# Altium integrated library Cypress PSoC 1.IntLib: 188 symbols (part 10 of 11)
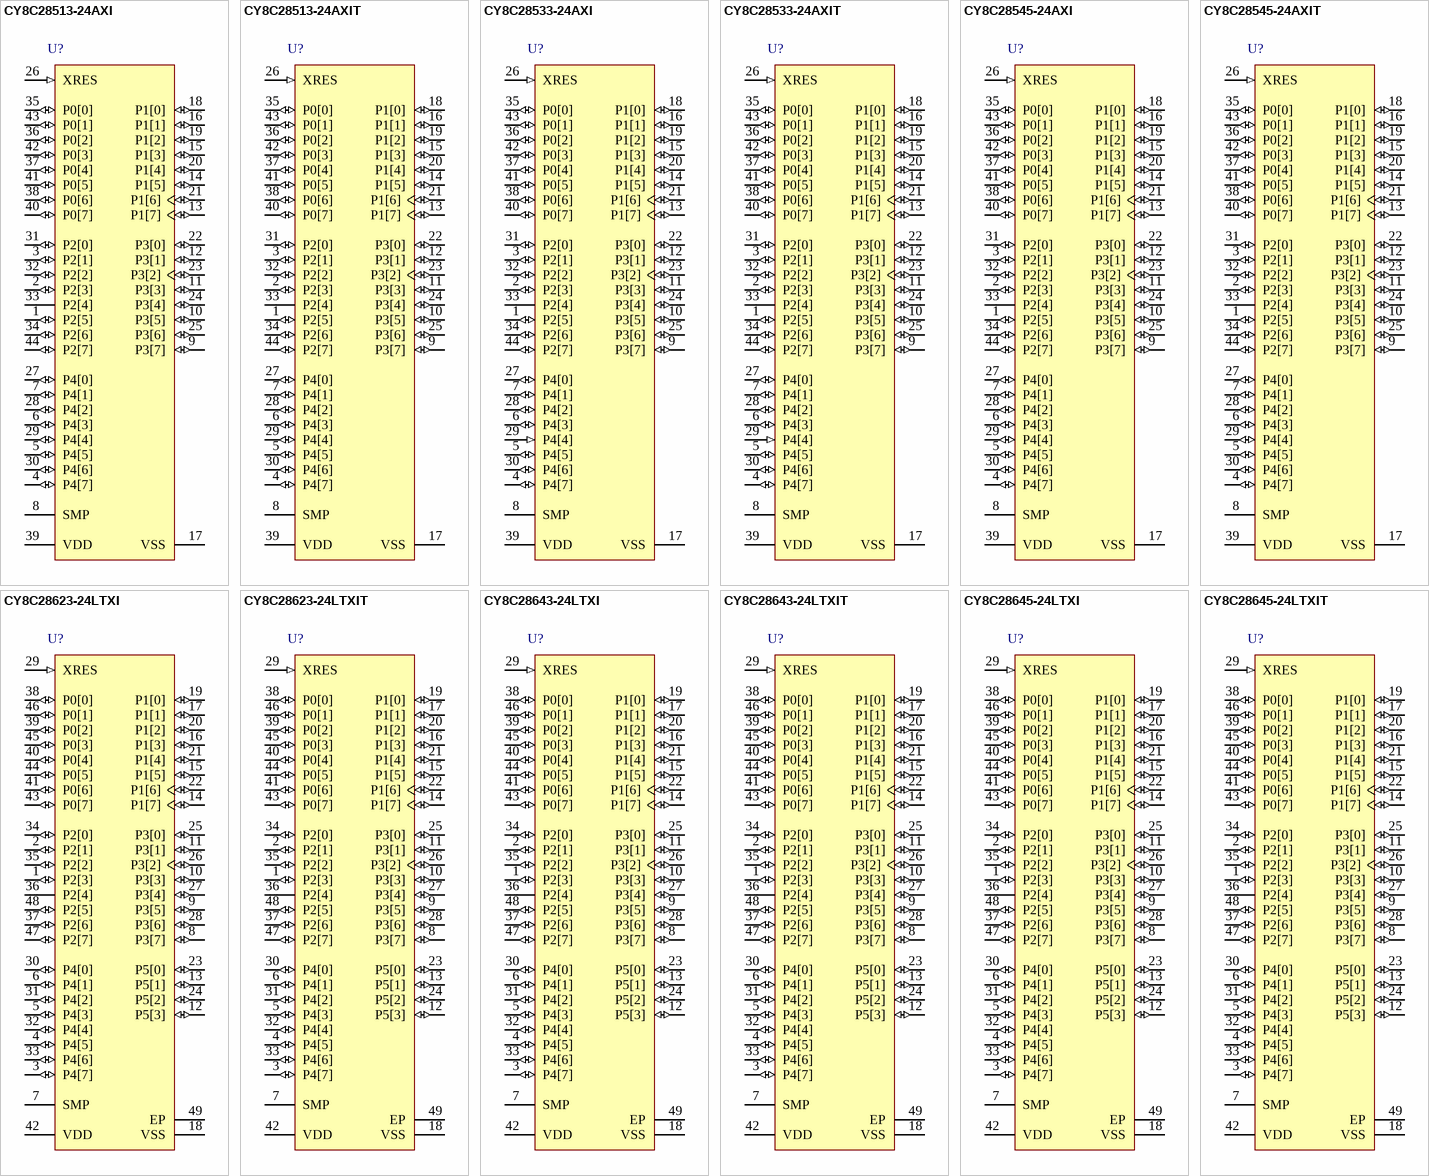
[diagram p20: symbols CY8C28513-24AXI to CY8C28645-24LTXIT]

## CY8C28643-24LTXIT
designator U?
PSoC Programmable System-on-Chip, 16 KB Flash, 44 GPIOs, 3.00 to 5.25 V, 48-Pin Sawn QFN (LT48D), Tape and Reel; Manufacturer: Cypress; PartNumber: CY8C28643-24LTXIT; No. of CapSense IO: 44; Flash (KB): 16; Max. Operating Voltage (V): 5.25; Min. Operating Voltage (V): 3.00; No. of Programmable Digital Blocks: 12; DatasheetVersion: Rev. *M; PackageReference: LT48D; PackageDescription: 48-Pin QFN, Body 7 x 7 mm, Pitch 0.5 mm; Supplier 1: Digi-Key; Supplier Part Number 1: CY8C28643-24LTXIT-ND; Supplier 2: Mouser; Supplier Part Number 2: 727-CY8C2864324LTXIT; Mounting Technology: Surface Mount; Code_JEDEC: MO-220; ComponentLink1Description: Manufacturer URL; ComponentLink1URL: http://www.cypress.com/; ComponentLink2Description: Datasheet; ComponentLink2URL: http://www.cypress.com/?docID=46091; ComponentLink3Description: Package Specification; ComponentLink3URL: http://www.cypress.com/?docID=39885; ComponentLink4Description: Product URL; ComponentLink4URL: http://www.cypress.com/?rID=35242
footprint CYP-LT48D_N (QFN, 48-Leads, Body 7x7mm, Pitch 0.5mm, Thermal Pad 5.6x5.6mm, IPC Medium Density)
footprint CYP-LT48D_L (QFN, 48-Leads, Body 7x7mm, Pitch 0.5mm, Thermal Pad 5.6x5.6mm, IPC High Density)
footprint CYP-LT48D_M (QFN, 48-Leads, Body 7x7mm, Pitch 0.5mm, Thermal Pad 5.6x5.6mm, IPC Low Density)
pins: 1 P2[3] (io) "Direct switched capacitor block input.", 2 P2[1] (io) "Direct switched capacitor block input.", 3 P4[7] (io), 4 P4[5] (io), 5 P4[3] (io), 6 P4[1] (io), 7 SMP (power) "Switch Mode Pump (SMP) connection to external components", 8 P3[7] (io), 9 P3[5] (io), 10 P3[3] (io), 11 P3[1] (io), 12 P5[3] (io), 13 P5[1] (io), 14 P1[7] (io) "I2C0 Serial Clock (SCL)", 15 P1[5] (io) "I2C0 Serial Data (SDA)", 16 P1[3] (io), 17 P1[1] (io) "Crystal Input (XTALin), I2C0 Serial Clock(SCL),ISSP-Sclk", 18 VSS (power) "Ground connection", 19 P1[0] (io) "Crystal Output (XTALout), I2C0 Serial Data(SDA),ISSP-SDATA", 20 P1[2] (io) "I2C1 Serial Data (SDA).", 21 P1[4] (io) "Optional External Clock Input(EXTCLK)", 22 P1[6] (io) "I2C1 Serial Clock (SCL)", 23 P5[0] (io), 24 P5[2] (io), 25 P3[0] (io) "I2C1 Serial Data (SDA)", 26 P3[2] (io) "I2C1 Serial Clock (SCL)", 27 P3[4] (io), 28 P3[6] (io), 29 XRES (in) "Active high external reset with internal pull-down", 30 P4[0] (io), 31 P4[2] (io), 32 P4[4] (io), 33 P4[6] (io), 34 P2[0] (io) "Direct switched capacitor block input", 35 P2[2] (io) "Direct switched capacitor block input", 36 P2[4] (power) "External Analog Ground (AGND)", 37 P2[6] (io) "External Voltage Reference (VRef)", 38 P0[0] (io) "Analog column mux and SAR ADC input", 39 P0[2] (io) "Analog column mux and SAR ADC input.Analog column output", 40 P0[4] (io) "Analog column mux and SAR ADC input.Analog column output", 41 P0[6] (io) "Analog column mux and SAR ADC input", 42 VDD (power) "Supply voltage", 43 P0[7] (io) "Analog column mux and SAR ADC input", 44 P0[5] (io) "Analog column mux and SAR ADC input.Analog column output", 45 P0[3] (io) "Analog column mux and SAR ADC input.Analog column output", 46 P0[1] (io) "Analog column mux and SAR ADC input", 47 P2[7] (io), 48 P2[5] (io), 49 EP (power)

## CY8C28645-24LTXI
designator U?
PSoC Programmable System-on-Chip, 16 KB Flash, 44 GPIOs, 3.00 to 5.25 V, 48-Pin Sawn QFN (LT48D); Manufacturer: Cypress; PartNumber: CY8C28645-24LTXI; No. of CapSense IO: 44; Flash (KB): 16; Max. Operating Voltage (V): 5.25; Min. Operating Voltage (V): 3.00; No. of Programmable Digital Blocks: 12; DatasheetVersion: Rev. *M; PackageReference: LT48D; PackageDescription: 48-Pin QFN, Body 7 x 7 mm, Pitch 0.5 mm; Supplier 1: Digi-Key; Supplier Part Number 1: CY8C28645-24LTXI-ND; Supplier 2: Mouser; Supplier Part Number 2: 727-CY8C2864524LTXI; Mounting Technology: Surface Mount; Code_JEDEC: MO-220; ComponentLink1Description: Manufacturer URL; ComponentLink1URL: http://www.cypress.com/; ComponentLink2Description: Datasheet; ComponentLink2URL: http://www.cypress.com/?docID=46091; ComponentLink3Description: Package Specification; ComponentLink3URL: http://www.cypress.com/?docID=39885; ComponentLink4Description: Product URL; ComponentLink4URL: http://www.cypress.com/?rID=35242
footprint CYP-LT48D_N (QFN, 48-Leads, Body 7x7mm, Pitch 0.5mm, Thermal Pad 5.6x5.6mm, IPC Medium Density)
footprint CYP-LT48D_L (QFN, 48-Leads, Body 7x7mm, Pitch 0.5mm, Thermal Pad 5.6x5.6mm, IPC High Density)
footprint CYP-LT48D_M (QFN, 48-Leads, Body 7x7mm, Pitch 0.5mm, Thermal Pad 5.6x5.6mm, IPC Low Density)
pins: 1 P2[3] (io) "Direct switched capacitor block input.", 2 P2[1] (io) "Direct switched capacitor block input.", 3 P4[7] (io), 4 P4[5] (io), 5 P4[3] (io), 6 P4[1] (io), 7 SMP (power) "Switch Mode Pump (SMP) connection to external components.", 8 P3[7] (io), 9 P3[5] (io), 10 P3[3] (io), 11 P3[1] (io), 12 P5[3] (io), 13 P5[1] (io), 14 P1[7] (io) "I2C0 Serial Clock (SCL).", 15 P1[5] (io) "I2C0 Serial Data (SDA).", 16 P1[3] (io), 17 P1[1] (io) "Crystal Input (XTALin), I2C0 Serial Clock (SCL), ISSP-SCLK", 18 VSS (power) "Ground connection.", 19 P1[0] (io) "Crystal Output (XTALout), I2C0 Serial Data (SDA), ISSP-SDATA", 20 P1[2] (io) "I2C1 Serial Data (SDA).", 21 P1[4] (io) "Optional External Clock Input (EXTCLK).", 22 P1[6] (io) "I2C1 Serial Clock (SCL).", 23 P5[0] (io), 24 P5[2] (io), 25 P3[0] (io) "I2C1 Serial Data (SDA).", 26 P3[2] (io) "I2C1 Serial Clock (SCL).", 27 P3[4] (io), 28 P3[6] (io), 29 XRES (in) "Active high external reset with internal pull-down.", 30 P4[0] (io), 31 P4[2] (io), 32 P4[4] (io), 33 P4[6] (io), 34 P2[0] (io) "Direct switched capacitor block input.", 35 P2[2] (io) "Direct switched capacitor block input.", 36 P2[4] (power) "External Analog Ground (AGND).", 37 P2[6] (io) "External Voltage Reference (VRef).", 38 P0[0] (io) "Analog column mux and SAR ADC input.", 39 P0[2] (io) "Analog column mux and SAR ADC input. Analog column output.", 40 P0[4] (io) "Analog column mux and SAR ADC input. Analog column output.", 41 P0[6] (io) "Analog column mux and SAR ADC input.", 42 VDD (power) "Supply voltage.", 43 P0[7] (io) "Analog column mux and SAR ADC input.", 44 P0[5] (io) "Analog column mux and SAR ADC input. Analog column output.", 45 P0[3] (io) "Analog column mux and SAR ADC input. Analog column output.", 46 P0[1] (io) "Analog column mux and SAR ADC input.", 47 P2[7] (io), 48 P2[5] (io), 49 EP (power)

## CY8C28645-24LTXIT
designator U?
PSoC Programmable System-on-Chip, 16 KB Flash, 44 GPIOs, 3.00 to 5.25 V, 48-Pin Sawn QFN (LT48D), Tape and Reel; Manufacturer: Cypress; PartNumber: CY8C28645-24LTXIT; No. of CapSense IO: 44; Flash (KB): 16; Max. Operating Voltage (V): 5.25; Min. Operating Voltage (V): 3.00; No. of Programmable Digital Blocks: 12; DatasheetVersion: Rev. *M; PackageReference: LT48D; PackageDescription: 48-Pin QFN, Body 7 x 7 mm, Pitch 0.5 mm; Supplier 1: Digi-Key; Supplier Part Number 1: CY8C28645-24LTXIT-ND; Supplier 2: Mouser; Supplier Part Number 2: 727-8C2864524LTXIT; Mounting Technology: Surface Mount; Code_JEDEC: MO-220; ComponentLink1Description: Manufacturer URL; ComponentLink1URL: http://www.cypress.com/; ComponentLink2Description: Datasheet; ComponentLink2URL: http://www.cypress.com/?docID=46091; ComponentLink3Description: Package Specification; ComponentLink3URL: http://www.cypress.com/?docID=39885; ComponentLink4Description: Product URL; ComponentLink4URL: http://www.cypress.com/?rID=35242
footprint CYP-LT48D_N (QFN, 48-Leads, Body 7x7mm, Pitch 0.5mm, Thermal Pad 5.6x5.6mm, IPC Medium Density)
footprint CYP-LT48D_L (QFN, 48-Leads, Body 7x7mm, Pitch 0.5mm, Thermal Pad 5.6x5.6mm, IPC High Density)
footprint CYP-LT48D_M (QFN, 48-Leads, Body 7x7mm, Pitch 0.5mm, Thermal Pad 5.6x5.6mm, IPC Low Density)
pins: 1 P2[3] (io) "Direct switched capacitor block input.", 2 P2[1] (io) "Direct switched capacitor block input.", 3 P4[7] (io), 4 P4[5] (io), 5 P4[3] (io), 6 P4[1] (io), 7 SMP (power) "Switch Mode Pump (SMP) connection to external components.", 8 P3[7] (io), 9 P3[5] (io), 10 P3[3] (io), 11 P3[1] (io), 12 P5[3] (io), 13 P5[1] (io), 14 P1[7] (io) "I2C0 Serial Clock (SCL).", 15 P1[5] (io) "I2C0 Serial Data (SDA).", 16 P1[3] (io), 17 P1[1] (io) "Crystal Input (XTALin), I2C0 Serial Clock (SCL), ISSP-SCLK", 18 VSS (power) "Ground connection.", 19 P1[0] (io) "Crystal Output (XTALout), I2C0 Serial Data (SDA), ISSP-SDATA", 20 P1[2] (io) "I2C1 Serial Data (SDA).", 21 P1[4] (io) "Optional External Clock Input (EXTCLK).", 22 P1[6] (io) "I2C1 Serial Clock (SCL).", 23 P5[0] (io), 24 P5[2] (io), 25 P3[0] (io) "I2C1 Serial Data (SDA).", 26 P3[2] (io) "I2C1 Serial Clock (SCL).", 27 P3[4] (io), 28 P3[6] (io), 29 XRES (in) "Active high external reset with internal pull-down.", 30 P4[0] (io), 31 P4[2] (io), 32 P4[4] (io), 33 P4[6] (io), 34 P2[0] (io) "Direct switched capacitor block input.", 35 P2[2] (io) "Direct switched capacitor block input.", 36 P2[4] (power) "External Analog Ground (AGND).", 37 P2[6] (io) "External Voltage Reference (VRef).", 38 P0[0] (io) "Analog column mux and SAR ADC input.", 39 P0[2] (io) "Analog column mux and SAR ADC input. Analog column output.", 40 P0[4] (io) "Analog column mux and SAR ADC input. Analog column output.", 41 P0[6] (io) "Analog column mux and SAR ADC input.", 42 VDD (power) "Supply voltage.", 43 P0[7] (io) "Analog column mux and SAR ADC input.", 44 P0[5] (io) "Analog column mux and SAR ADC input. Analog column output.", 45 P0[3] (io) "Analog column mux and SAR ADC input. Analog column output.", 46 P0[1] (io) "Analog column mux and SAR ADC input.", 47 P2[7] (io), 48 P2[5] (io), 49 EP (power)

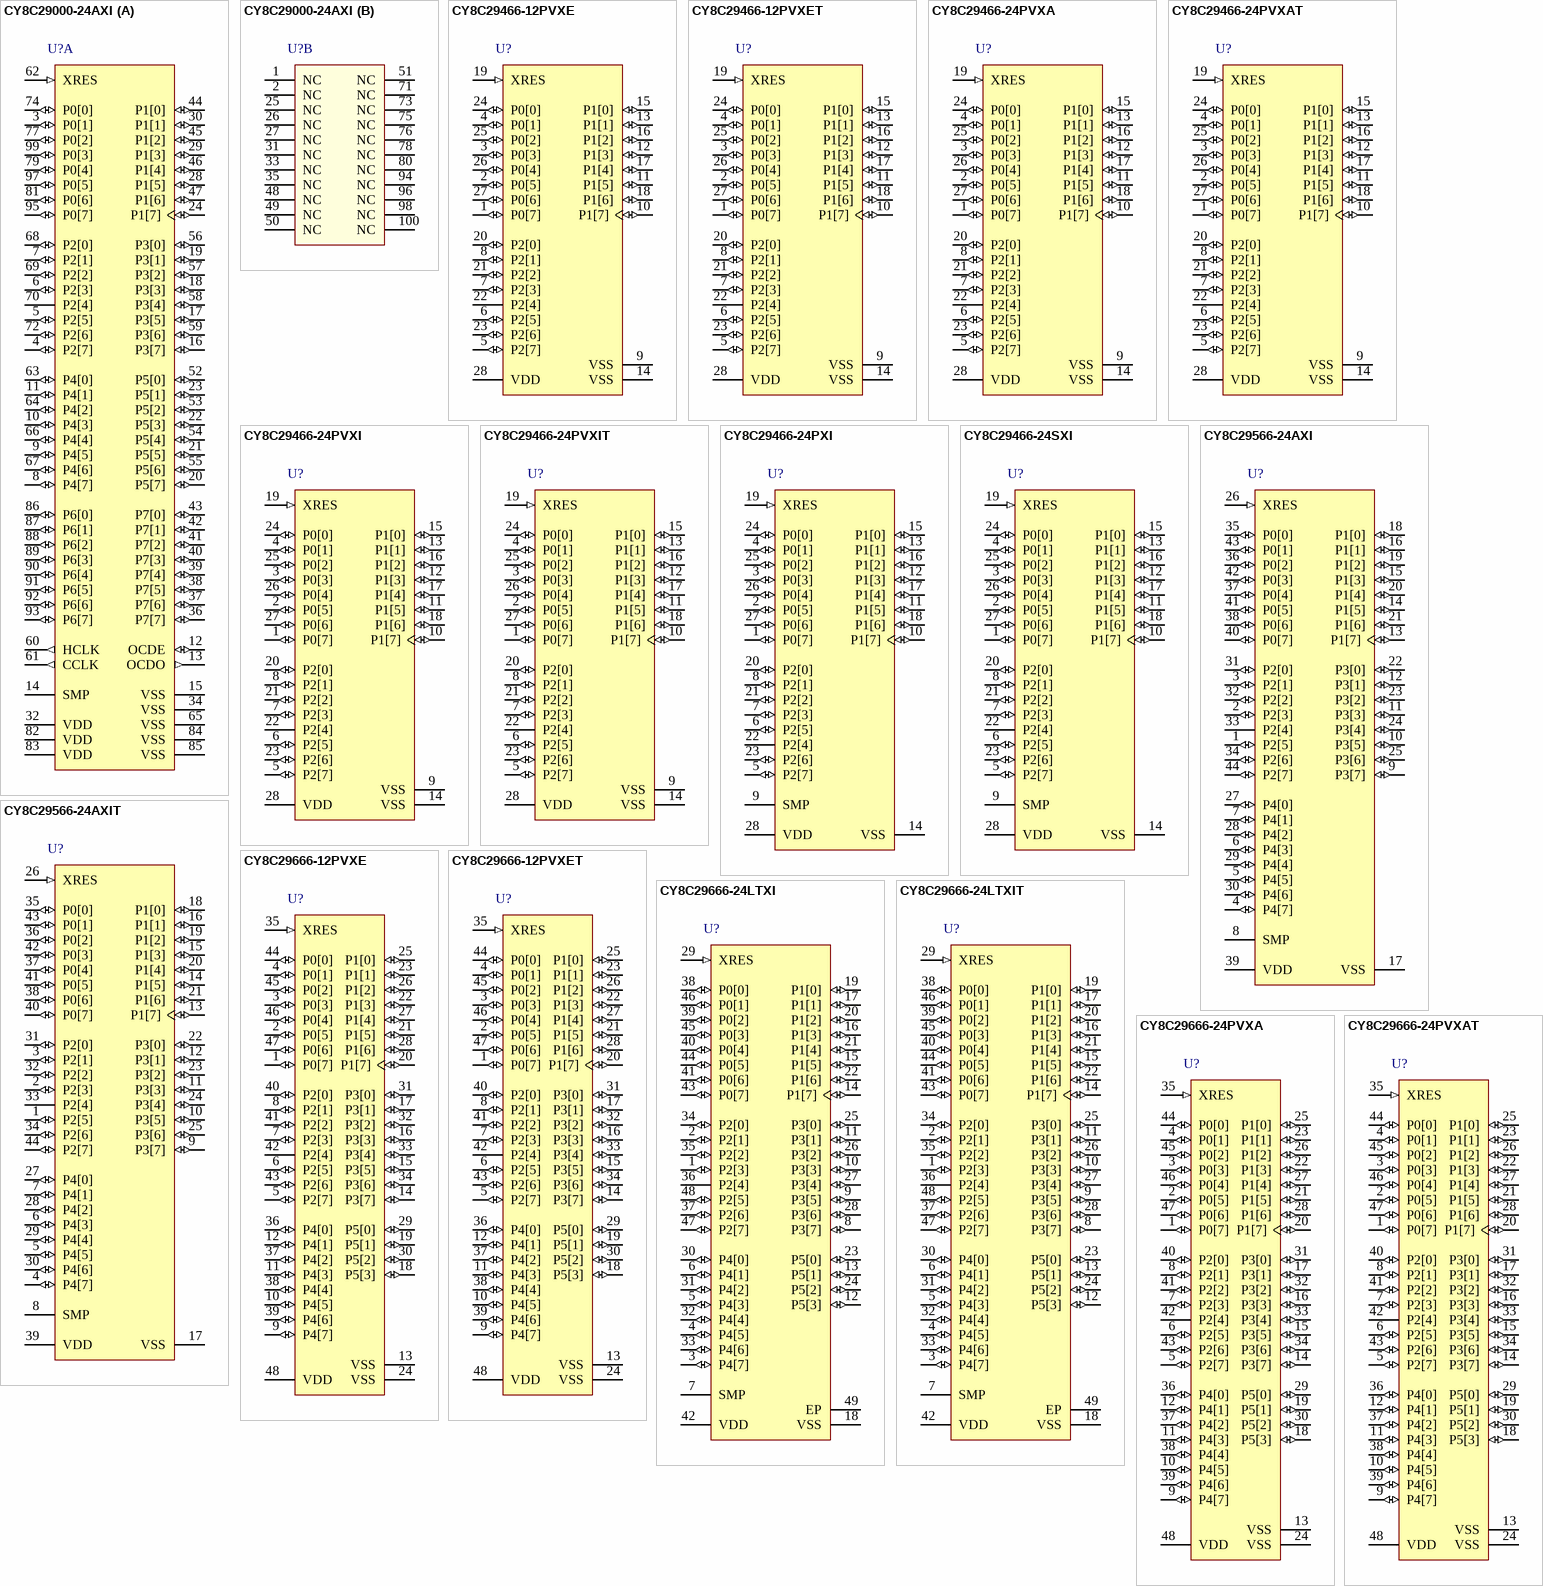
[diagram p10: symbols CY8C29000-24AXI to CY8C29666-24PVXAT]

## CY8C29000-24AXI
designator U?
PSoC Programmable System-on-Chip, 32 KB Flash, 64 GPIOs, 3.00 to 5.25 V, 100-Pin TQFP (A100SA); Manufacturer: Cypress; PartNumber: CY8C29000-24AXI; Flash (KB): 32; Max. Operating Voltage (V): 5.25; Min. Operating Voltage (V): 3.00; No. of Programmable Digital Blocks: 16; DatasheetVersion: Rev. *X; PackageVersion: *D; PackageReference: AX100; PackageDescription: 100-Pin Thin Plastic Quad Flatpack, Body 14 x14 mm, Pitch 0.5 mm; Supplier 1: Mouser; Supplier Part Number 1: N/A; Mounting Technology: Surface Mount; Code_JEDEC: MS-026; ComponentLink1Description: Manufacturer URL; ComponentLink1URL: http://www.cypress.com/; ComponentLink2Description: Datasheet; ComponentLink2URL: http://www.cypress.com/?docID=49191; ComponentLink3Description: Package Specification; ComponentLink3URL: http://www.cypress.com/?docID=35576; ComponentLink4Description: Product URL; ComponentLink4URL: http://www.cypress.com/?rID=3334
footprint CYP-AX100_N (QFN, 100-Leads, Body 14x14mm, Pitch 0.5mm, IPC Medium Density)
footprint CYP-AX100_L (QFN, 100-Leads, Body 14x14mm, Pitch 0.5mm, IPC High Density)
footprint CYP-AX100_M (QFN, 100-Leads, Body 14x14mm, Pitch 0.5mm, IPC Low Density)
part A pins: 3 P0[1] (io) "Analog column mux input", 4 P2[7] (io), 5 P2[5] (io), 6 P2[3] (io) "Direct switched capacitor block input", 7 P2[1] (io) "Direct switched capacitor block input", 8 P4[7] (io), 9 P4[5] (io), 10 P4[3] (io), 11 P4[1] (io), 12 OCDE (io) "OCD even data I/O", 13 OCDO (out) "OCD odd data output", 14 SMP (power) "Switch Mode Pump (SMP) connection to required external components", 15 VSS (power) "Ground connection", 16 P3[7] (io), 17 P3[5] (io), 18 P3[3] (io), 19 P3[1] (io), 20 P5[7] (io), 21 P5[5] (io), 22 P5[3] (io), 23 P5[1] (io), 24 P1[7] (io) "I2C SCL", 28 P1[5] (io) "I2C SDA", 29 P1[3] (io) "IFMTEST", 30 P1[1] (io) "Crystal (XTALin), I2C SCL, TC SCLK.", 32 VDD (power) "Supply voltage", 34 VSS (power) "Ground connection", 36 P7[7] (io), 37 P7[6] (io), 38 P7[5] (io), 39 P7[4] (io), 40 P7[3] (io), 41 P7[2] (io), 42 P7[1] (io), 43 P7[0] (io), 44 P1[0] (io) "Crystal (XTALout), I2C SDA, TC SDATA", 45 P1[2] (io) "VFMTEST", 46 P1[4] (io) "Optional External Clock Input (EXTCLK)", 47 P1[6] (io), 52 P5[0] (io), 53 P5[2] (io), 54 P5[4] (io), 55 P5[6] (io), 56 P3[0] (io), 57 P3[2] (io), 58 P3[4] (io), 59 P3[6] (io), 60 HCLK (out) "OCD high speed clock output", 61 CCLK (out) "OCD CPU clock output", 62 XRES (in) "Active high pin reset with internal pull-down", 63 P4[0] (io), 64 P4[2] (io), 65 VSS (power) "Ground connection", 66 P4[4] (io), 67 P4[6] (io), 68 P2[0] (io) "Direct switched capacitor block input", 69 P2[2] (io) "Direct switched capacitor block input", 70 P2[4] (power) "External Analog Ground (AGND) input", 72 P2[6] (io) "External Voltage Reference (VREF) input", 74 P0[0] (io) "Analog column mux input", 77 P0[2] (io) "Analog column mux input and column output", 79 P0[4] (io) "Analog column mux input and column output, VREF", 81 P0[6] (io) "Analog column mux input", 82 VDD (power) "Supply voltage", 83 VDD (power) "Supply voltage", 84 VSS (power) "Ground connection", 85 VSS (power) "Ground connection", 86 P6[0] (io), 87 P6[1] (io), 88 P6[2] (io), 89 P6[3] (io), 90 P6[4] (io), 91 P6[5] (io), 92 P6[6] (io), 93 P6[7] (io), 95 P0[7] (io) "Analog column mux input", 97 P0[5] (io) "Analog column mux input and column output", 99 P0[3] (io) "Analog column mux input and column output"
part B pins: 1 NC "No internal connection", 2 NC "No internal connection", 25 NC "No internal connection", 26 NC "No internal connection", 27 NC "No internal connection", 31 NC "No internal connection", 33 NC "No internal connection", 35 NC "No internal connection", 48 NC "No internal connection", 49 NC "No internal connection", 50 NC "No internal connection", 51 NC "No internal connection", 71 NC "No internal connection", 73 NC "No internal connection", 75 NC "No internal connection", 76 NC "No internal connection", 78 NC "No internal connection", 80 NC "No internal connection", 94 NC "No internal connection", 96 NC "No internal connection", 98 NC "No internal connection", 100 NC "No internal connection"

## CY8C29466-12PVXE
designator U?
Automotive Extended Temperature PSoC Programmable System-on-Chip, 32 KB Flash, 24 GPIOs, 4.75 to 5.25 V, 28-Pin SSOP (O28.21); Manufacturer: Cypress; PartNumber: CY8C29466-12PVXE; Flash (KB): 32; Max. Operating Voltage (V): 5.25; Min. Operating Voltage (V): 4.75; No. of Programmable Digital Blocks: 16; DatasheetVersion: Rev. *M; PackageVersion: *C; PackageReference: PVX28; PackageDescription: 28-Pin SSOP, Body 10.2 x 5.3 mm, Pitch 0.65 mm; Supplier 1: Digi-Key; Supplier Part Number 1: CY8C29466-12PVXE-ND; Supplier 2: Newark; Supplier Part Number 2: 53M3705; Supplier 3: Mouser; Supplier Part Number 3: 727-CY8C29466-12PVXE; Mounting Technology: Surface Mount; ComponentLink1Description: Manufacturer URL; ComponentLink1URL: http://www.cypress.com/; ComponentLink2Description: Datasheet; ComponentLink2URL: http://www.cypress.com/?docID=39752; ComponentLink3Description: Package Specification; ComponentLink3URL: http://www.cypress.com/?docID=1371; ComponentLink4Description: Product URL; ComponentLink4URL: http://www.cypress.com/?rID=3313
footprint CYP-PVX28_N (SOP, 28-Leads, Body 10.2x5.3mm, Pitch 0.65mm, IPC Medium Density)
footprint CYP-PVX28_L (SOP, 28-Leads, Body 10.2x5.3mm, Pitch 0.65mm, IPC High Density)
footprint CYP-PVX28_M (SOP, 28-Leads, Body 10.2x5.3mm, Pitch 0.65mm, IPC Low Density)
pins: 1 P0[7] (io) "Analog column mux input", 2 P0[5] (io) "Analog column mux input and column output", 3 P0[3] (io) "Analog column mux input and column output", 4 P0[1] (io) "Analog column mux input", 5 P2[7] (io), 6 P2[5] (io), 7 P2[3] (io) "Direct switched capacitor block input", 8 P2[1] (io) "Direct switched capacitor block input", 9 VSS (power) "Ground connection", 10 P1[7] (io) "I2C serial clock (SCL)", 11 P1[5] (io) "I2C serial data (SDA)", 12 P1[3] (io), 13 P1[1] (io) "Crystal input (XTALin), I2C serial clock (SCL),ISSP-SDATA", 14 VSS (power) "Ground connection", 15 P1[0] (io) "Crystal output (XTALout), I2C serial data(SDA),ISSP-SDATA", 16 P1[2] (io), 17 P1[4] (io) "Optional external clock (EXTCLK) input.", 18 P1[6] (io), 19 XRES (in) "Active high external reset with internal pull-down", 20 P2[0] (io) "Direct switched capacitor block input", 21 P2[2] (io) "Direct switched capacitor block input", 22 P2[4] (power) "External analog ground (AGND)", 23 P2[6] (io) "External voltage reference (VREF)", 24 P0[0] (io) "Analog column mux input", 25 P0[2] (io) "Analog column mux input and column output", 26 P0[4] (io) "Analog column mux input and column output", 27 P0[6] (io) "Analog column mux input", 28 VDD (power) "Supply voltage"

## CY8C29466-12PVXET
designator U?
Automotive Extended Temperature PSoC Programmable System-on-Chip, 32 KB Flash, 24 GPIOs, 4.75 to 5.25 V, 28-Pin SSOP (O28.21), Tape and Reel; Manufacturer: Cypress; PartNumber: CY8C29466-12PVXET; Flash (KB): 32; Max. Operating Voltage (V): 5.25; Min. Operating Voltage (V): 4.75; No. of Programmable Digital Blocks: 16; DatasheetVersion: Rev. *M; PackageVersion: *C; PackageReference: PVX28; PackageDescription: 28-Pin SSOP, Body 10.2 x 5.3 mm, Pitch 0.65 mm; Supplier 1: Digi-Key; Supplier Part Number 1: CY8C29466-12PVXET-ND; Supplier 2: Mouser; Supplier Part Number 2: 727-CY8C2946612PVXET; Mounting Technology: Surface Mount; ComponentLink1Description: Manufacturer URL; ComponentLink1URL: http://www.cypress.com/; ComponentLink2Description: Datasheet; ComponentLink2URL: http://www.cypress.com/?docID=39752; ComponentLink3Description: Package Specification; ComponentLink3URL: http://www.cypress.com/?docID=1371; ComponentLink4Description: Product URL; ComponentLink4URL: http://www.cypress.com/?rID=3313
footprint CYP-PVX28_N (SOP, 28-Leads, Body 10.2x5.3mm, Pitch 0.65mm, IPC Medium Density)
footprint CYP-PVX28_L (SOP, 28-Leads, Body 10.2x5.3mm, Pitch 0.65mm, IPC High Density)
footprint CYP-PVX28_M (SOP, 28-Leads, Body 10.2x5.3mm, Pitch 0.65mm, IPC Low Density)
pins: 1 P0[7] (io) "Analog column mux input", 2 P0[5] (io) "Analog column mux input and column output", 3 P0[3] (io) "Analog column mux input and column output", 4 P0[1] (io) "Analog column mux input", 5 P2[7] (io), 6 P2[5] (io), 7 P2[3] (io) "Direct switched capacitor block input", 8 P2[1] (io) "Direct switched capacitor block input", 9 VSS (power) "Ground connection", 10 P1[7] (io) "I2C serial clock (SCL)", 11 P1[5] (io) "I2C serial data (SDA)", 12 P1[3] (io), 13 P1[1] (io) "Crystal input (XTALin), I2C serial clock (SCL),ISSP-SDATA", 14 VSS (power) "Ground connection", 15 P1[0] (io) "Crystal output (XTALout), I2C serial data(SDA),ISSP-SDATA", 16 P1[2] (io), 17 P1[4] (io) "Optional external clock (EXTCLK) input.", 18 P1[6] (io), 19 XRES (in) "Active high external reset with internal pull-down", 20 P2[0] (io) "Direct switched capacitor block input", 21 P2[2] (io) "Direct switched capacitor block input", 22 P2[4] (power) "External analog ground (AGND)", 23 P2[6] (io) "External voltage reference (VREF)", 24 P0[0] (io) "Analog column mux input", 25 P0[2] (io) "Analog column mux input and column output", 26 P0[4] (io) "Analog column mux input and column output", 27 P0[6] (io) "Analog column mux input", 28 VDD (power) "Supply voltage"

## CY8C29466-24PVXA
designator U?
Automotive PSoC Programmable System-on-Chip, 32 KB Flash, 24 GPIOs, 3.00 to 5.25 V, 28-Pin SSOP (O28.21); Manufacturer: Cypress; PartNumber: CY8C29466-24PVXA; Flash (KB): 32; Max. Operating Voltage (V): 5.25; Min. Operating Voltage (V): 3.00; No. of Programmable Digital Blocks: 16; DatasheetVersion: Rev. *G; PackageVersion: *C; PackageReference: PVX28; PackageDescription: 28-Pin SSOP, Body 10.2 x 5.3 mm, Pitch 0.65 mm; Supplier 1: Digi-Key; Supplier Part Number 1: CY8C29466-24PVXA-ND; Supplier 2: Mouser; Supplier Part Number 2: 727-CY8C29466-24PVXA; Mounting Technology: Surface Mount; ComponentLink1Description: Manufacturer URL; ComponentLink1URL: http://www.cypress.com/; ComponentLink2Description: Datasheet; ComponentLink2URL: http://www.cypress.com/?docID=34522; ComponentLink3Description: Package Specification; ComponentLink3URL: http://www.cypress.com/?docID=1371; ComponentLink4Description: Product URL; ComponentLink4URL: http://www.cypress.com/?rID=37551
footprint CYP-PVX28_N (SOP, 28-Leads, Body 10.2x5.3mm, Pitch 0.65mm, IPC Medium Density)
footprint CYP-PVX28_L (SOP, 28-Leads, Body 10.2x5.3mm, Pitch 0.65mm, IPC High Density)
footprint CYP-PVX28_M (SOP, 28-Leads, Body 10.2x5.3mm, Pitch 0.65mm, IPC Low Density)
pins: 1 P0[7] (io) "Analog column mux input", 2 P0[5] (io) "Analog column mux input and column output", 3 P0[3] (io) "Analog column mux input and column output", 4 P0[1] (io) "Analog column mux input", 5 P2[7] (io), 6 P2[5] (io), 7 P2[3] (io) "Direct switched capacitor block input", 8 P2[1] (io) "Direct switched capacitor block input", 9 VSS (power) "Ground connection", 10 P1[7] (io) "I2C serial clock (SCL)", 11 P1[5] (io) "I2C serial data (SDA)", 12 P1[3] (io), 13 P1[1] (io) "Crystal input (XTALin), I2C serial clock (SCL),ISSP-SDATA", 14 VSS (power) "Ground connection", 15 P1[0] (io) "Crystal output (XTALout), I2C serial data(SDA),ISSP-SDATA", 16 P1[2] (io), 17 P1[4] (io) "Optional external clock (EXTCLK) input.", 18 P1[6] (io), 19 XRES (in) "Active high external reset with internal pull-down", 20 P2[0] (io) "Direct switched capacitor block input", 21 P2[2] (io) "Direct switched capacitor block input", 22 P2[4] (power) "External analog ground (AGND)", 23 P2[6] (io) "External voltage reference (VREF)", 24 P0[0] (io) "Analog column mux input", 25 P0[2] (io) "Analog column mux input and column output", 26 P0[4] (io) "Analog column mux input and column output", 27 P0[6] (io) "Analog column mux input", 28 VDD (power) "Supply voltage"

## CY8C29466-24PVXAT
designator U?
Automotive PSoC Programmable System-on-Chip, 32 KB Flash, 24 GPIOs, 3.00 to 5.25 V, 28-Pin SSOP (O28.21), Tape and Reel; Manufacturer: Cypress; PartNumber: CY8C29466-24PVXAT; Flash (KB): 32; Max. Operating Voltage (V): 5.25; Min. Operating Voltage (V): 3.00; No. of Programmable Digital Blocks: 16; DatasheetVersion: Rev. *G; PackageVersion: *C; PackageReference: PVX28; PackageDescription: 28-Pin SSOP, Body 10.2 x 5.3 mm, Pitch 0.65 mm; Supplier 1: Digi-Key; Supplier Part Number 1: CY8C29466-24PVXAT-ND; Supplier 2: Mouser; Supplier Part Number 2: 727-CY8C2946624PVXAT; Mounting Technology: Surface Mount; ComponentLink1Description: Manufacturer URL; ComponentLink1URL: http://www.cypress.com/; ComponentLink2Description: Datasheet; ComponentLink2URL: http://www.cypress.com/?docID=34522; ComponentLink3Description: Package Specification; ComponentLink3URL: http://www.cypress.com/?docID=1371; ComponentLink4Description: Product URL; ComponentLink4URL: http://www.cypress.com/?rID=37551
footprint CYP-PVX28_N (SOP, 28-Leads, Body 10.2x5.3mm, Pitch 0.65mm, IPC Medium Density)
footprint CYP-PVX28_L (SOP, 28-Leads, Body 10.2x5.3mm, Pitch 0.65mm, IPC High Density)
footprint CYP-PVX28_M (SOP, 28-Leads, Body 10.2x5.3mm, Pitch 0.65mm, IPC Low Density)
pins: 1 P0[7] (io) "Analog column mux input", 2 P0[5] (io) "Analog column mux input and column output", 3 P0[3] (io) "Analog column mux input and column output", 4 P0[1] (io) "Analog column mux input", 5 P2[7] (io), 6 P2[5] (io), 7 P2[3] (io) "Direct switched capacitor block input", 8 P2[1] (io) "Direct switched capacitor block input", 9 VSS (power) "Ground connection", 10 P1[7] (io) "I2C serial clock (SCL)", 11 P1[5] (io) "I2C serial data (SDA)", 12 P1[3] (io), 13 P1[1] (io) "Crystal input (XTALin), I2C serial clock (SCL),ISSP-SDATA", 14 VSS (power) "Ground connection", 15 P1[0] (io) "Crystal output (XTALout), I2C serial data(SDA),ISSP-SDATA", 16 P1[2] (io), 17 P1[4] (io) "Optional external clock (EXTCLK) input.", 18 P1[6] (io), 19 XRES (in) "Active high external reset with internal pull-down", 20 P2[0] (io) "Direct switched capacitor block input", 21 P2[2] (io) "Direct switched capacitor block input", 22 P2[4] (power) "External analog ground (AGND)", 23 P2[6] (io) "External voltage reference (VREF)", 24 P0[0] (io) "Analog column mux input", 25 P0[2] (io) "Analog column mux input and column output", 26 P0[4] (io) "Analog column mux input and column output", 27 P0[6] (io) "Analog column mux input", 28 VDD (power) "Supply voltage"

## CY8C29466-24PVXI
designator U?
PSoC Programmable System-on-Chip, 32 KB Flash, 24 GPIOs, 3.00 to 5.25 V, O28.21, 28-Pin (210-Mil) SSOP; Manufacturer: Cypress; PartNumber: CY8C29466-24PVXI; Flash (KB): 32; Max. Operating Voltage (V): 5.25; Min. Operating Voltage (V): 3.00; No. of Programmable Digital Blocks: 16; DatasheetVersion: Rev. *X; PackageVersion: *C; PackageReference: PVX28; PackageDescription: 28-Pin SSOP, Body 10.2 x 5.3 mm, Pitch 0.65 mm; Supplier 1: Digi-Key; Supplier Part Number 1: 428-1587-ND; Supplier 2: Farnell; Supplier Part Number 2: 1321745; Supplier 3: Newark; Supplier Part Number 3: 19M7229; Supplier 4: Mouser; Supplier Part Number 4: 727-CY8C29466-24PVXI; Mounting Technology: Surface Mount; ComponentLink1Description: Manufacturer URL; ComponentLink1URL: http://www.cypress.com/; ComponentLink2Description: Datasheet; ComponentLink2URL: http://www.cypress.com/?docID=49191; ComponentLink3Description: Package Specification; ComponentLink3URL: http://www.cypress.com/?docID=1371; ComponentLink4Description: Product URL; ComponentLink4URL: http://www.cypress.com/?rID=3334
footprint CYP-PVX28_N (SOP, 28-Leads, Body 10.2x5.3mm, Pitch 0.65mm, IPC Medium Density)
footprint CYP-PVX28_L (SOP, 28-Leads, Body 10.2x5.3mm, Pitch 0.65mm, IPC High Density)
footprint CYP-PVX28_M (SOP, 28-Leads, Body 10.2x5.3mm, Pitch 0.65mm, IPC Low Density)
pins: 1 P0[7] (io) "Analog column mux input", 2 P0[5] (io) "Analog column mux input and column output", 3 P0[3] (io) "Analog column mux input and column output", 4 P0[1] (io) "Analog column mux input", 5 P2[7] (io), 6 P2[5] (io), 7 P2[3] (io) "Direct switched capacitor block input", 8 P2[1] (io) "Direct switched capacitor block input", 9 VSS (power) "Ground connection", 10 P1[7] (io) "I2C serial clock (SCL)", 11 P1[5] (io) "I2C serial data (SDA)", 12 P1[3] (io), 13 P1[1] (io) "Crystal input (XTALin), I2C serial clock (SCL),ISSP-SDATA", 14 VSS (power) "Ground connection", 15 P1[0] (io) "Crystal output (XTALout), I2C serial data(SDA),ISSP-SDATA", 16 P1[2] (io), 17 P1[4] (io) "Optional external clock (EXTCLK) input.", 18 P1[6] (io), 19 XRES (in) "Active high external reset with internal pull-down", 20 P2[0] (io) "Direct switched capacitor block input", 21 P2[2] (io) "Direct switched capacitor block input", 22 P2[4] (power) "External analog ground (AGND)", 23 P2[6] (io) "External voltage reference (VREF)", 24 P0[0] (io) "Analog column mux input", 25 P0[2] (io) "Analog column mux input and column output", 26 P0[4] (io) "Analog column mux input and column output", 27 P0[6] (io) "Analog column mux input", 28 VDD (power) "Supply voltage"

## CY8C29466-24PVXIT
designator U?
PSoC Programmable System-on-Chip, 32 KB Flash, 24 GPIOs, 3.00 to 5.25 V, O28.21, 28-Pin (210-Mil) SSOP, Tape and Reel; Manufacturer: Cypress; PartNumber: CY8C29466-24PVXIT; Comm. Interface: I2C-SPI-UART; Flash (KB): 32; Max. Operating Voltage (V): 5.25; Min. Operating Voltage (V): 3.00; No. of Programmable Digital Blocks: 16; DatasheetVersion: Rev. *X; PackageVersion: *C; PackageReference: PVX28; PackageDescription: 28-Pin SSOP, Body 10.2 x 5.3 mm, Pitch 0.65 mm; Supplier 1: Digi-Key; Supplier Part Number 1: CY8C29466-24PVXIT-ND; Supplier 2: Newark; Supplier Part Number 2: 19M7230; Supplier 3: Mouser; Supplier Part Number 3: 727-CY8C2946624PVXIT; Mounting Technology: Surface Mount; ComponentLink1Description: Manufacturer URL; ComponentLink1URL: http://www.cypress.com/; ComponentLink2Description: Datasheet; ComponentLink2URL: http://www.cypress.com/?docID=49191; ComponentLink3Description: Package Specification; ComponentLink3URL: http://www.cypress.com/?docID=1371; ComponentLink4Description: Product URL; ComponentLink4URL: http://www.cypress.com/?rID=3334
footprint CYP-PVX28_N (SOP, 28-Leads, Body 10.2x5.3mm, Pitch 0.65mm, IPC Medium Density)
footprint CYP-PVX28_L (SOP, 28-Leads, Body 10.2x5.3mm, Pitch 0.65mm, IPC High Density)
footprint CYP-PVX28_M (SOP, 28-Leads, Body 10.2x5.3mm, Pitch 0.65mm, IPC Low Density)
pins: 1 P0[7] (io) "Analog column mux input", 2 P0[5] (io) "Analog column mux input and column output", 3 P0[3] (io) "Analog column mux input and column output", 4 P0[1] (io) "Analog column mux input", 5 P2[7] (io), 6 P2[5] (io), 7 P2[3] (io) "Direct switched capacitor block input", 8 P2[1] (io) "Direct switched capacitor block input", 9 VSS (power) "Ground connection", 10 P1[7] (io) "I2C serial clock (SCL)", 11 P1[5] (io) "I2C serial data (SDA)", 12 P1[3] (io), 13 P1[1] (io) "Crystal input (XTALin), I2C serial clock (SCL),ISSP-SDATA", 14 VSS (power) "Ground connection", 15 P1[0] (io) "Crystal output (XTALout), I2C serial data(SDA),ISSP-SDATA", 16 P1[2] (io), 17 P1[4] (io) "Optional external clock (EXTCLK) input.", 18 P1[6] (io), 19 XRES (in) "Active high external reset with internal pull-down", 20 P2[0] (io) "Direct switched capacitor block input", 21 P2[2] (io) "Direct switched capacitor block input", 22 P2[4] (power) "External analog ground (AGND)", 23 P2[6] (io) "External voltage reference (VREF)", 24 P0[0] (io) "Analog column mux input", 25 P0[2] (io) "Analog column mux input and column output", 26 P0[4] (io) "Analog column mux input and column output", 27 P0[6] (io) "Analog column mux input", 28 VDD (power) "Supply voltage"

## CY8C29466-24PXI
designator U?
PSoC Programmable System-on-Chip, 32 KB Flash, 24 GPIOs, 3.00 to 5.25 V, P28.3, 28-Pin (300-mil) DIP; Manufacturer: Cypress; PartNumber: CY8C29466-24PXI; Flash (KB): 32; Max. Operating Voltage (V): 5.25; Min. Operating Voltage (V): 3.00; No. of Programmable Digital Blocks: 16; DatasheetVersion: Rev. *X; PackageVersion: Rev. *R; PackageReference: P28.3; PackageDescription: 28-Pin Molded DIP, Row Spacing 7.62 mm, Pitch 2.54 mm; Supplier 1: Digi-Key; Supplier Part Number 1: 428-1586-ND; Supplier 2: Farnell; Supplier Part Number 2: 1267194; Supplier 3: Newark; Supplier Part Number 3: 19M7231; Supplier 4: Mouser; Supplier Part Number 4: 727-CY8C29466-24PXI; Mounting Technology: Surface Mount; Code_JEDEC: MO-095; ComponentLink1Description: Manufacturer URL; ComponentLink1URL: http://www.cypress.com/; ComponentLink2Description: Datasheet; ComponentLink2URL: http://www.cypress.com/?docID=49191; ComponentLink3Description: Package Specification; ComponentLink3URL: http://www.cypress.com/?docID=36703; ComponentLink4Description: Product URL; ComponentLink4URL: http://www.cypress.com/?rID=3334
footprint CYP-P28.3 (DIP, 28-Leads, Body 34.67x7.05mm, Pitch 2.54mm)
pins: 1 P0[7] (io) "Analog column mux input", 2 P0[5] (io) "Analog column mux input and column output", 3 P0[3] (io) "Analog column mux input and column output", 4 P0[1] (io) "Analog column mux input", 5 P2[7] (io), 6 P2[5] (io), 7 P2[3] (io) "Direct switched capacitor block input", 8 P2[1] (io) "Direct switched capacitor block input", 9 SMP (power) "Switch mode pump (SMP) connection to external components required", 10 P1[7] (io) "I2C serial clock (SCL)", 11 P1[5] (io) "I2C serial data (SDA)", 12 P1[3] (io), 13 P1[1] (io) "Crystal (XTALin), I2C Serial Clock (SCL), ISSP-SCLK", 14 VSS (power) "Ground connection", 15 P1[0] (io) "Crystal (XTALout), I2C Serial Data (SDA), ISSP-SDATA", 16 P1[2] (io), 17 P1[4] (io) "Optional external clock input (EXTCLK)", 18 P1[6] (io), 19 XRES (in) "Active high external reset with internal pull-down", 20 P2[0] (io) "Direct switched capacitor block input", 21 P2[2] (io) "Direct switched capacitor block input", 22 P2[4] (power) "External analog ground (AGND)", 23 P2[6] (io) "External voltage reference (VREF)", 24 P0[0] (io) "Analog column mux input", 25 P0[2] (io) "Analog column mux input and column output", 26 P0[4] (io) "Analog column mux input and column output", 27 P0[6] (io) "Analog column mux input", 28 VDD (power) "Supply voltage"

## CY8C29466-24SXI
designator U?
PSoC Programmable System-on-Chip, 32 KB Flash, 24 GPIOs, 3.00 to 5.25 V, S28.3, 28-Pin (300-mil) SOIC; Manufacturer: Cypress; PartNumber: CY8C29466-24SXI; Comm. Interface: I2C-SPI-UART; Flash (KB): 32; Max. Operating Voltage (V): 5.25; Min. Operating Voltage (V): 3.00; No. of Programmable Digital Blocks: 16; DatasheetVersion: Rev. *X; PackageVersion: *E; PackageReference: SX28; PackageDescription: 28-Pin SOIC, Body 17.91 x 7.51 mm, Pitch 1.27 mm; Supplier 1: Digi-Key; Supplier Part Number 1: 428-1588-ND; Supplier 2: Farnell; Supplier Part Number 2: 1267195; Supplier 3: Newark; Supplier Part Number 3: 19M7232; Supplier 4: Mouser; Supplier Part Number 4: 727-CY8C29466-24SXI; Mounting Technology: Surface Mount; Code_JEDEC: MO-119; ComponentLink1Description: Manufacturer URL; ComponentLink1URL: http://www.cypress.com/; ComponentLink2Description: Datasheet; ComponentLink2URL: http://www.cypress.com/?docID=49191; ComponentLink3Description: Package Specification; ComponentLink3URL: http://www.cypress.com/?docID=39168; ComponentLink4Description: Product URL; ComponentLink4URL: http://www.cypress.com/?rID=3334
footprint CYP-SX28_N (SOIC, 28-Leads, Body 17.9x7.5mm, Pitch 1.27mm, IPC Medium Density)
footprint CYP-SX28_L (SOIC, 28-Leads, Body 17.9x7.5mm, Pitch 1.27mm, IPC High Density)
footprint CYP-SX28_M (SOIC, 28-Leads, Body 17.9x7.5mm, Pitch 1.27mm, IPC Low Density)
pins: 1 P0[7] (io) "Analog column mux input", 2 P0[5] (io) "Analog column mux input and column output", 3 P0[3] (io) "Analog column mux input and column output", 4 P0[1] (io) "Analog column mux input", 5 P2[7] (io), 6 P2[5] (io), 7 P2[3] (io) "Direct switched capacitor block input", 8 P2[1] (io) "Direct switched capacitor block input", 9 SMP (power) "Switch mode pump (SMP) connection to external components required", 10 P1[7] (io) "I2C serial clock (SCL)", 11 P1[5] (io) "I2C serial data (SDA)", 12 P1[3] (io), 13 P1[1] (io) "Crystal (XTALin), I2C Serial Clock (SCL), ISSP-SCLK", 14 VSS (power) "Ground connection", 15 P1[0] (io) "Crystal (XTALout), I2C Serial Data (SDA), ISSP-SDATA", 16 P1[2] (io), 17 P1[4] (io) "Optional external clock input (EXTCLK)", 18 P1[6] (io), 19 XRES (in) "Active high external reset with internal pull-down", 20 P2[0] (io) "Direct switched capacitor block input", 21 P2[2] (io) "Direct switched capacitor block input", 22 P2[4] (power) "External analog ground (AGND)", 23 P2[6] (io) "External voltage reference (VREF)", 24 P0[0] (io) "Analog column mux input", 25 P0[2] (io) "Analog column mux input and column output", 26 P0[4] (io) "Analog column mux input and column output", 27 P0[6] (io) "Analog column mux input", 28 VDD (power) "Supply voltage"

## CY8C29566-24AXI
designator U?
PSoC Programmable System-on-Chip, 32 KB Flash, 40 GPIOs, 3.00 to 5.25 V, 44-Pin TQFP (A44S); Manufacturer: Cypress; PartNumber: CY8C29566-24AXI; Flash (KB): 32; Max. Operating Voltage (V): 5.25; Min. Operating Voltage (V): 3.00; No. of Programmable Digital Blocks: 16; DatasheetVersion: Rev. *X; PackageVersion: *D; PackageReference: AX44; PackageDescription: 44-Pin Thin Plastic Quad Flatpack, Body 10 x 10 mm, Pitch 0.8 mm; Supplier 1: Digi-Key; Supplier Part Number 1: 428-1589-ND; Supplier 2: Farnell; Supplier Part Number 2: 1267196; Supplier 3: Farnell; Supplier Part Number 3: 1267196MPKG; Supplier 4: Newark; Supplier Part Number 4: 19M7234; Supplier 5: Mouser; Supplier Part Number 5: 727-CY8C29566-24AXI; Mounting Technology: Surface Mount; Code_JEDEC: MS-026; ComponentLink1Description: Manufacturer URL; ComponentLink1URL: http://www.cypress.com/; ComponentLink2Description: Datasheet; ComponentLink2URL: http://www.cypress.com/?docID=49191; ComponentLink3Description: Package Specification; ComponentLink3URL: http://www.cypress.com/?docID=20444; ComponentLink4Description: Product URL; ComponentLink4URL: http://www.cypress.com/?rID=3334
footprint CYP-AX44_N (QFP, 44-Leads, Body 10x10mm, Pitch 0.8mm, IPC Medium Density)
footprint CYP-AX44_L (QFP, 44-Leads, Body 10x10mm, Pitch 0.8mm, IPC High Density)
footprint CYP-AX44_M (QFP, 44-Leads, Body 10x10mm, Pitch 0.8mm, IPC Low Density)
pins: 1 P2[5] (io), 2 P2[3] (io) "Direct switched capacitor block input", 3 P2[1] (io) "Direct switched capacitor block input", 4 P4[7] (io), 5 P4[5] (io), 6 P4[3] (io), 7 P4[1] (io), 8 SMP (power) "Switch mode pump (SMP) connection to external components required", 9 P3[7] (io), 10 P3[5] (io), 11 P3[3] (io), 12 P3[1] (io), 13 P1[7] (io) "I2C SCL", 14 P1[5] (io) "I2C SDA", 15 P1[3] (io), 16 P1[1] (io) "Crystal (XTALin), I2C SCL, ISSP-SCLK[4]", 17 VSS (power) "Ground connection", 18 P1[0] (io) "Crystal (XTALout), I2C SDA, ISSP-SDATA[4]", 19 P1[2] (io), 20 P1[4] (io) "Optional EXTCLK", 21 P1[6] (io), 22 P3[0] (io), 23 P3[2] (io), 24 P3[4] (io), 25 P3[6] (io), 26 XRES (in) "Active high external reset with internal pull-down", 27 P4[0] (io), 28 P4[2] (io), 29 P4[4] (io), 30 P4[6] (io), 31 P2[0] (io) "Direct switched capacitor block input", 32 P2[2] (io) "Direct switched capacitor block input", 33 P2[4] (power) "External analog ground (AGND)", 34 P2[6] (io) "External voltage reference (VREF)", 35 P0[0] (io) "Analog column mux input", 36 P0[2] (io) "Analog column mux input and column output", 37 P0[4] (io) "Analog column mux input and column output", 38 P0[6] (io) "Analog column mux input", 39 VDD (power) "Supply voltage", 40 P0[7] (io) "Analog column mux input", 41 P0[5] (io) "Analog column mux input and column output", 42 P0[3] (io) "Analog column mux input and column output", 43 P0[1] (io) "Analog column mux input", 44 P2[7] (io)

## CY8C29566-24AXIT
designator U?
PSoC Programmable System-on-Chip, 32 KB Flash, 40 GPIOs, 3.00 to 5.25 V, 44-Pin TQFP (A44S), Tape and Reel; Manufacturer: Cypress; PartNumber: CY8C29566-24AXIT; Flash (KB): 32; Max. Operating Voltage (V): 5.25; Min. Operating Voltage (V): 3.00; No. of Programmable Digital Blocks: 16; DatasheetVersion: Rev. *X; PackageVersion: *D; PackageReference: AX44; PackageDescription: 44-Pin Thin Plastic Quad Flatpack, Body 10 x 10 mm, Pitch 0.8 mm; Supplier 1: Digi-Key; Supplier Part Number 1: CY8C29566-24AXIT-ND; Supplier 2: Mouser; Supplier Part Number 2: 727-CY8C2956624AXIT; Mounting Technology: Surface Mount; Code_JEDEC: MS-026; ComponentLink1Description: Manufacturer URL; ComponentLink1URL: http://www.cypress.com/; ComponentLink2Description: Datasheet; ComponentLink2URL: http://www.cypress.com/?docID=49191; ComponentLink3Description: Package Specification; ComponentLink3URL: http://www.cypress.com/?docID=20444; ComponentLink4Description: Product URL; ComponentLink4URL: http://www.cypress.com/?rID=3334
footprint CYP-AX44_N (QFP, 44-Leads, Body 10x10mm, Pitch 0.8mm, IPC Medium Density)
footprint CYP-AX44_L (QFP, 44-Leads, Body 10x10mm, Pitch 0.8mm, IPC High Density)
footprint CYP-AX44_M (QFP, 44-Leads, Body 10x10mm, Pitch 0.8mm, IPC Low Density)
pins: 1 P2[5] (io), 2 P2[3] (io) "Direct switched capacitor block input", 3 P2[1] (io) "Direct switched capacitor block input", 4 P4[7] (io), 5 P4[5] (io), 6 P4[3] (io), 7 P4[1] (io), 8 SMP (power) "Switch mode pump (SMP) connection to external components required", 9 P3[7] (io), 10 P3[5] (io), 11 P3[3] (io), 12 P3[1] (io), 13 P1[7] (io) "I2C SCL", 14 P1[5] (io) "I2C SDA", 15 P1[3] (io), 16 P1[1] (io) "Crystal (XTALin), I2C SCL, ISSP-SCLK[4]", 17 VSS (power) "Ground connection", 18 P1[0] (io) "Crystal (XTALout), I2C SDA, ISSP-SDATA[4]", 19 P1[2] (io), 20 P1[4] (io) "Optional EXTCLK", 21 P1[6] (io), 22 P3[0] (io), 23 P3[2] (io), 24 P3[4] (io), 25 P3[6] (io), 26 XRES (in) "Active high external reset with internal pull-down", 27 P4[0] (io), 28 P4[2] (io), 29 P4[4] (io), 30 P4[6] (io), 31 P2[0] (io) "Direct switched capacitor block input", 32 P2[2] (io) "Direct switched capacitor block input", 33 P2[4] (power) "External analog ground (AGND)", 34 P2[6] (io) "External voltage reference (VREF)", 35 P0[0] (io) "Analog column mux input", 36 P0[2] (io) "Analog column mux input and column output", 37 P0[4] (io) "Analog column mux input and column output", 38 P0[6] (io) "Analog column mux input", 39 VDD (power) "Supply voltage", 40 P0[7] (io) "Analog column mux input", 41 P0[5] (io) "Analog column mux input and column output", 42 P0[3] (io) "Analog column mux input and column output", 43 P0[1] (io) "Analog column mux input", 44 P2[7] (io)

## CY8C29666-12PVXE
designator U?
Automotive Extended Temperature PSoC Programmable System-on-Chip, 32 KB Flash, 44 GPIOs, 4.75 to 5.25 V, 48-Pin SSOP (O483); Manufacturer: Cypress; PartNumber: CY8C29666-12PVXE; Flash (KB): 32; Max. Operating Voltage (V): 5.25; Min. Operating Voltage (V): 4.75; No. of Programmable Digital Blocks: 16; DatasheetVersion: Rev. *M; PackageVersion: *D; PackageReference: PVX48; PackageDescription: 48-Pin Shrunk Small Outline Package, Body 15.88 x 7.51 mm, Pitch 0.64 mm; Supplier 1: Mouser; Supplier Part Number 1: 727-CY8C29666-12PVXE; Mounting Technology: Surface Mount; ComponentLink1Description: Manufacturer URL; ComponentLink1URL: http://www.cypress.com/; ComponentLink2Description: Datasheet; ComponentLink2URL: http://www.cypress.com/?docID=39752; ComponentLink3Description: Package Specification; ComponentLink3URL: http://www.cypress.com/?docID=39235; ComponentLink4Description: Product URL; ComponentLink4URL: http://www.cypress.com/?rID=3313
footprint CYP-PVX48_N (SOP, 48-Leads, Body 15.88x7.51mm, Pitch 0.635mm, IPC Medium Density)
footprint CYP-PVX48_L (SOP, 48-Leads, Body 15.88x7.51mm, Pitch 0.635mm, IPC High Density)
footprint CYP-PVX48_M (SOP, 48-Leads, Body 15.88x7.51mm, Pitch 0.635mm, IPC Low Density)
pins: 1 P0[7] (io) "Analog column mux input", 2 P0[5] (io) "Analog column mux input and column output", 3 P0[3] (io) "Analog column mux input and column output", 4 P0[1] (io) "Analog column mux input", 5 P2[7] (io), 6 P2[5] (io), 7 P2[3] (io) "Direct switched capacitor block input", 8 P2[1] (io) "Direct switched capacitor block input", 9 P4[7] (io), 10 P4[5] (io), 11 P4[3] (io), 12 P4[1] (io), 13 VSS (power) "Ground connection", 14 P3[7] (io), 15 P3[5] (io), 16 P3[3] (io), 17 P3[1] (io), 18 P5[3] (io), 19 P5[1] (io), 20 P1[7] (io) "I2C serial clock (SCL)", 21 P1[5] (io) "I2C serial data (SDA)", 22 P1[3] (io), 23 P1[1] (io) "Crystal input (XTALin), I2C serial clock (SCL), ISSP-SCLK", 24 VSS (power) "Ground connection", 25 P1[0] (io) "Crystal output (XTALout), I2C Serial Data (SDA), ISSP-SDATA", 26 P1[2] (io), 27 P1[4] (io) "Optional external clock (EXTCLK) input", 28 P1[6] (io), 29 P5[0] (io), 30 P5[2] (io), 31 P3[0] (io), 32 P3[2] (io), 33 P3[4] (io), 34 P3[6] (io), 35 XRES (in) "Active high external reset with internal pull-down", 36 P4[0] (io), 37 P4[2] (io), 38 P4[4] (io), 39 P4[6] (io), 40 P2[0] (io) "Direct switched capacitor block input", 41 P2[2] (io) "Direct switched capacitor block input", 42 P2[4] (power) "External analog ground (AGND)", 43 P2[6] (io) "External voltage reference (VREF)", 44 P0[0] (io) "Analog column mux input", 45 P0[2] (io) "Analog column mux input and column output", 46 P0[4] (io) "Analog column mux input and column output", 47 P0[6] (io) "Analog column mux input", 48 VDD (power) "Supply voltage"

## CY8C29666-12PVXET
designator U?
Automotive Extended Temperature PSoC Programmable System-on-Chip, 32 KB Flash, 44 GPIOs, 4.75 to 5.25 V, 48-Pin SSOP (O483), Tape and Reel; Manufacturer: Cypress; PartNumber: CY8C29666-12PVXET; Flash (KB): 32; Max. Operating Voltage (V): 5.25; Min. Operating Voltage (V): 4.75; No. of Programmable Digital Blocks: 16; DatasheetVersion: Rev. *M; PackageVersion: *D; PackageReference: PVX48; PackageDescription: 48-Pin Shrunk Small Outline Package, Body 15.88 x 7.51 mm, Pitch 0.64 mm; Supplier 1: Mouser; Supplier Part Number 1: 727-CY8C2966612PVXET; Mounting Technology: Surface Mount; ComponentLink1Description: Manufacturer URL; ComponentLink1URL: http://www.cypress.com/; ComponentLink2Description: Datasheet; ComponentLink2URL: http://www.cypress.com/?docID=39752; ComponentLink3Description: Package Specification; ComponentLink3URL: http://www.cypress.com/?docID=39235; ComponentLink4Description: Product URL; ComponentLink4URL: http://www.cypress.com/?rID=3313
footprint CYP-PVX48_N (SOP, 48-Leads, Body 15.88x7.51mm, Pitch 0.635mm, IPC Medium Density)
footprint CYP-PVX48_L (SOP, 48-Leads, Body 15.88x7.51mm, Pitch 0.635mm, IPC High Density)
footprint CYP-PVX48_M (SOP, 48-Leads, Body 15.88x7.51mm, Pitch 0.635mm, IPC Low Density)
pins: 1 P0[7] (io) "Analog column mux input", 2 P0[5] (io) "Analog column mux input and column output", 3 P0[3] (io) "Analog column mux input and column output", 4 P0[1] (io) "Analog column mux input", 5 P2[7] (io), 6 P2[5] (io), 7 P2[3] (io) "Direct switched capacitor block input", 8 P2[1] (io) "Direct switched capacitor block input", 9 P4[7] (io), 10 P4[5] (io), 11 P4[3] (io), 12 P4[1] (io), 13 VSS (power) "Ground connection", 14 P3[7] (io), 15 P3[5] (io), 16 P3[3] (io), 17 P3[1] (io), 18 P5[3] (io), 19 P5[1] (io), 20 P1[7] (io) "I2C serial clock (SCL)", 21 P1[5] (io) "I2C serial data (SDA)", 22 P1[3] (io), 23 P1[1] (io) "Crystal input (XTALin), I2C serial clock (SCL), ISSP-SCLK", 24 VSS (power) "Ground connection", 25 P1[0] (io) "Crystal output (XTALout), I2C Serial Data (SDA), ISSP-SDATA", 26 P1[2] (io), 27 P1[4] (io) "Optional external clock (EXTCLK) input", 28 P1[6] (io), 29 P5[0] (io), 30 P5[2] (io), 31 P3[0] (io), 32 P3[2] (io), 33 P3[4] (io), 34 P3[6] (io), 35 XRES (in) "Active high external reset with internal pull-down", 36 P4[0] (io), 37 P4[2] (io), 38 P4[4] (io), 39 P4[6] (io), 40 P2[0] (io) "Direct switched capacitor block input", 41 P2[2] (io) "Direct switched capacitor block input", 42 P2[4] (power) "External analog ground (AGND)", 43 P2[6] (io) "External voltage reference (VREF)", 44 P0[0] (io) "Analog column mux input", 45 P0[2] (io) "Analog column mux input and column output", 46 P0[4] (io) "Analog column mux input and column output", 47 P0[6] (io) "Analog column mux input", 48 VDD (power) "Supply voltage"

## CY8C29666-24LTXI
designator U?
PSoC Programmable System-on-Chip, 32 KB Flash, 44 GPIOs, 3.00 to 5.25 V, 48-Pin QFN (LT48A); Manufacturer: Cypress; PartNumber: CY8C29666-24LTXI; Flash (KB): 32; Max. Operating Voltage (V): 5.25; Min. Operating Voltage (V): 3.00; No. of Programmable Digital Blocks: 16; DatasheetVersion: Rev. *X; PackageReference: LTX48; PackageDescription: 48-Pin Sawn QFN, Body 7 x 7 mm, Pitch 0.5 mm; Supplier 1: Digi-Key; Supplier Part Number 1: 428-2982-ND; Supplier 2: Farnell; Supplier Part Number 2: 1874106; Supplier 3: Newark; Supplier Part Number 3: 50R9576; Supplier 4: Mouser; Supplier Part Number 4: 727-CY8C29666-24LTXI; Mounting Technology: Surface Mount; Code_JEDEC: MO-220; ComponentLink1Description: Manufacturer URL; ComponentLink1URL: http://www.cypress.com/; ComponentLink2Description: Datasheet; ComponentLink2URL: http://www.cypress.com/?docID=49191; ComponentLink3Description: Package Specification; ComponentLink3URL: http://www.cypress.com/?docID=40402; ComponentLink4Description: Product URL; ComponentLink4URL: http://www.cypress.com/?rID=3334
footprint CYP-LTX48_N (QFN, 48-Leads, Body 7x7mm, Pitch 0.5mm, Thermal Pad 5.1x5.1mm, IPC Medium Density)
footprint CYP-LTX48_L (QFN, 48-Leads, Body 7x7mm, Pitch 0.5mm, Thermal Pad 5.1x5.1mm, IPC High Density)
footprint CYP-LTX48_M (QFN, 48-Leads, Body 7x7mm, Pitch 0.5mm, Thermal Pad 5.1x5.1mm, IPC Low Density)
pins: 1 P2[3] (io) "Direct switched capacitor block input", 2 P2[1] (io) "Direct switched capacitor block input", 3 P4[7] (io), 4 P4[5] (io), 5 P4[3] (io), 6 P4[1] (io), 7 SMP (power) "Switch mode pump (SMP) connection to external components required", 8 P3[7] (io), 9 P3[5] (io), 10 P3[3] (io), 11 P3[1] (io), 12 P5[3] (io), 13 P5[1] (io), 14 P1[7] (io) "I2C SCL", 15 P1[5] (io) "I2C SDA", 16 P1[3] (io), 17 P1[1] (io) "Crystal (XTALin), I2C SCL, ISSP-SCLK", 18 VSS (power) "Ground connection", 19 P1[0] (io) "Crystal (XTALout), I2C SDA, ISSP-SDATA", 20 P1[2] (io), 21 P1[4] (io) "Optional EXTCLK", 22 P1[6] (io), 23 P5[0] (io), 24 P5[2] (io), 25 P3[0] (io), 26 P3[2] (io), 27 P3[4] (io), 28 P3[6] (io), 29 XRES (in) "Active high external reset with internal pull-down", 30 P4[0] (io), 31 P4[2] (io), 32 P4[4] (io), 33 P4[6] (io), 34 P2[0] (io) "Direct switched capacitor block input", 35 P2[2] (io) "Direct switched capacitor block input", 36 P2[4] (power) "External analog ground (AGND)", 37 P2[6] (io) "External voltage reference (VREF)", 38 P0[0] (io) "Analog column mux input", 39 P0[2] (io) "Analog column mux input and column output", 40 P0[4] (io) "Analog column mux input and column output", 41 P0[6] (io) "Analog column mux input", 42 VDD (power) "Supply voltage", 43 P0[7] (io) "Analog column mux input", 44 P0[5] (io) "Analog column mux input and column output", 45 P0[3] (io) "Analog column mux input and column output", 46 P0[1] (io) "Analog column mux input", 47 P2[7] (io), 48 P2[5] (io), 49 EP (power)